# Altium schematic symbol library LM3940IMP-3.3_NOPB.SchLib: 1 symbol
Pins are listed as number, name and electrical type; pins without a type are passive.

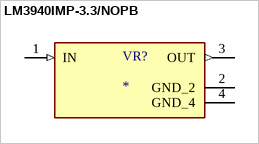
[diagram p0: symbol LM3940IMP-3.3/NOPB]

## LM3940IMP-3.3/NOPB
designator VR?
Ð›Ð¸Ð½ÐµÐ¹Ð½Ñ‹Ð¹ ÑÑ‚Ð°Ð±Ð¸Ð»Ð¸Ð·Ð°Ñ‚Ð¾Ñ€ Ð½Ð°Ð¿Ñ€ÑÐ¶ÐµÐ½Ð¸Ñ IC 1 Output 1A SOT-223-4; MP: LM3940IMP33; MF: National Semiconductor; SnapEDA_Link: https://www.snapeda.com/parts/LM3940IMP33/Texas%20Instruments/view-part/21631/?ref=snap; Value: *; Availability: Unavailable; Package: SOT-223-4 National Semiconductor; Check_prices: https://www.snapeda.com/parts/LM3940IMP33/Texas%20Instruments/view-part/21631/?ref=eda; Price: None
footprint VREG_LM3940IMP-3.3/NOPB
pins: 1 IN (in), 2 GND_2 (power), 3 OUT (out), 4 GND_4 (power)